# Altium schematic symbol library IC. Interfaces.SchLib: 1 symbol
Pins are listed as number, name and electrical type; pins without a type are passive.

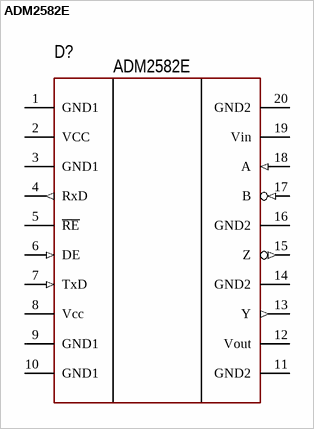
[diagram p0: symbol ADM2582E]

## ADM2582E
designator D?  PartNumber: ADM2582E
Isolated RS-485/RS-422 transceiver, configurable as half or / full duplex; Manufacturer: MEAN WELL; ValueManufacturerPartNumber: interface, RS485, -40...+85°C, 4-DIP; OutputType: RS485; Voltage: 3,3..5V; HelpURL: https://www.digikey.com/product-detail/en/mean-well-usa-inc/IRM-45-12/1866-3053-ND/7704678; Package: 4-DIP; ComponentType: interface; Temperature: -40...+85°C
footprint 20-SOIC-W (pitch 1.27 mm, isolator)
pins: 1 GND1 (power), 2 VCC (power), 3 GND1 (power), 4 RxD (out), 5 ~{RE}, 6 DE (in), 7 TxD (in), 8 Vcc (power), 9 GND1 (power), 10 GND1 (power), 11 GND2 (power), 12 Vout (power), 13 Y (out), 14 GND2 (power), 15 Z (out), 16 GND2 (power), 17 B (in), 18 A (in), 19 Vin (power), 20 GND2 (power)